# EAGLE library part TMP117AIYBGR (library Sensor)
TEMP SENSOR Manufacturer's datasheet <http://www.ti.com/lit/ds/symlink/tmp117.pdf>
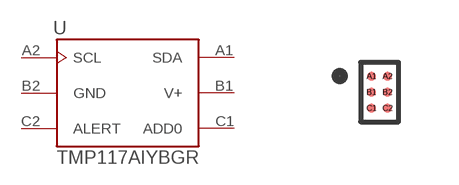
[diagram p7: symbol with the pads of TMP117AIYBGR; footprint TMP117AIYBGR]

Designator prefix U

## TMP117AIYBGR (CREATED_BY: PCBLayout.com; DIGIKEY_PART_NUMBER: 296-TMP117AIYBGRDKR-ND; MANUFACTURER: Texas Instruments; MPN: TMP117AIYBGR; PACKAGE: 6-DSBGA)  [TMP117AIYBGR]
A1  SDA
A2  SCL  in
B1  V+  in
B2  GND  pwr
C1  ADD0  in
C2  ALERT  out

## Footprint TMP117AIYBGR (pad centres in mm)
smd 0.23 x 0.23: A1 -0.2,0.4; A2 0.2,0.4; B1 -0.2,0; B2 0.2,0; C1 -0.2,-0.4; C2 0.2,-0.4